# EAGLE library part INA181 (library lichtenstein_onion)
Bidirectional, Low- and High-Side Voltage Output, Current-Sense Amplifiers Datasheets <http://www.ti.com/lit/ds/symlink/ina181.pdf> Gain Options 20 V/V (INA181A1) 50 V/V (INA181A2) 100 V/V (INA181A3) 200 V/V (INA181A4)
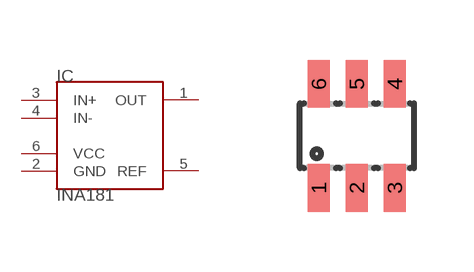
[diagram p27: symbol with the pads of SOT23-6L; footprint SOT23-6L]

Designator prefix IC

## INA181100VVSOT-23 (MOUSER: 595-INA181A3IDBVR), INA181200VVSOT-23 (MOUSER: 595-INA181A4IDBVR), INA18120VVSOT-23 (MOUSER: 595-INA181A1IDBVR), INA18150VVSOT-23 (MOUSER: 595-INA181A2IDBVR)  [SOT23-6L]
1  OUT  out
2  GND  pwr
3  IN+  pas
4  IN-  pas
5  REF  out
6  VCC  pwr

## Footprint SOT23-6L (pad centres in mm)
Small Outline Transistor
smd 0.55 x 1.2: 1 -0.95,-1.3; 2 0,-1.3; 3 0.95,-1.3; 4 0.95,1.3; 5 0,1.3; 6 -0.95,1.3